# EAGLE library part BLUETOOTH_HM10 (library lib_swirly)
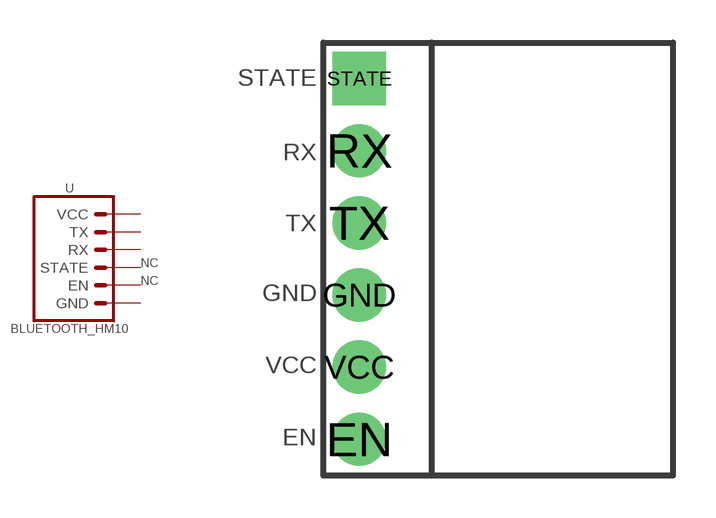
[diagram p2: symbol with the pads of CONNECTOR-RA_BLUETOOTH_HM10; footprint CONNECTOR-RA_BLUETOOTH_HM10]

Designator prefix -

## BLUETOOTH_HM10 (CREATOR: MrSwirlyEyes; DATASHEET: http://fab.cba.mit.edu/classes/863.15/doc/tutorials/programming/bluetooth/bluetooth40_en.pdf; DATASHEET_CONNECTOR: http://sullinscorp.com/catalogs/101_PAGE114-115_.100_FEMALE_HDR.pdf; DIST: Amazon; DISTLINK: https://www.amazon.com/SunFounder-Bluetooth-Master-Module-Arduino/dp/B00V07U93U; DISTLINK_CONNECTOR: https://www.digikey.com/products/en/connectors-interconnects/rectangular-connectors-headers-receptacles-female-sockets/315?k=S5442-ND; DISTPN: N/A; DISTPN_CONNECTOR: S5442-ND; DIST_CONNECTOR: Digikey; MFR_CONNECTOR: Sullins Connector Solutions; MPN_CONNECTOR: PPTC061LGBN-RC; TESTED: NO; VALUE: BT HM-10)  [CONNECTOR-RA_BLUETOOTH_HM10]
EN  EN  pas
GND  GND  pas
RX  RX  pas
STATE  STATE  pas
TX  TX  pas
VCC  VCC  pas

## Footprint CONNECTOR-RA_BLUETOOTH_HM10 (pad centres in mm)
drill 1.016 pad 1.88: EN 0,-6.35; GND 0,-1.27; RX 0,3.81; TX 0,1.27; VCC 0,-3.81
drill 1.016 pad 1.88 square: STATE 0,6.35